# Altium footprint library BioRocketFootprints.pcblib: 40 footprints (part 2 of 3)
Each footprint in its own frame and in the unit in brackets; x right, y up, seen from the top. Pads: shape width x height; smd on the part's side, far side on the other; paste and mask are expansions set on the pad; w line width, h text height; cw(c..) or ccw(c..) is an arc to the next point about the centre after c.
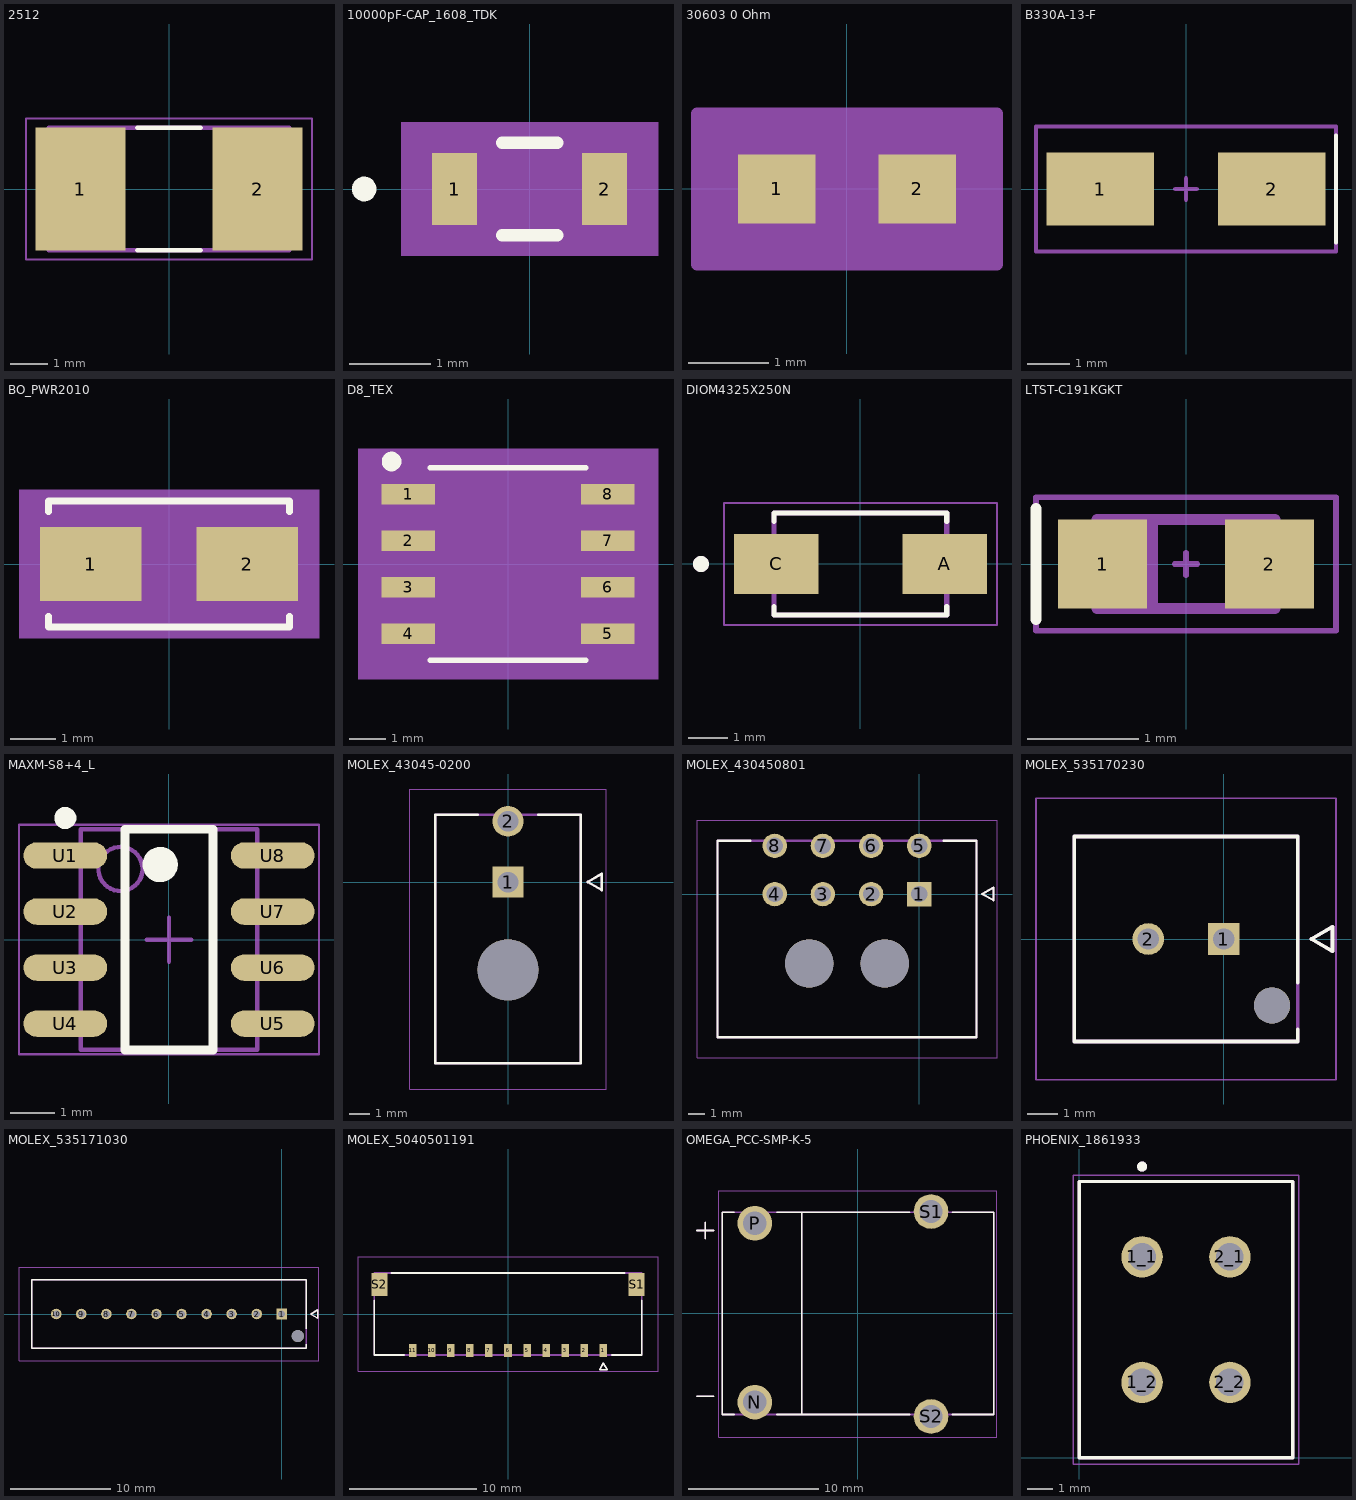
[diagram p1: the footprints below, top view; thin cyan lines are the x and y axes]

## 2512 [mm]
pads (2):
  rect 2.44x3.32 smd: 1(-2.39,0) 2(2.39,0)
Top Overlay:
  lines w0.127: -0.85,-1.65 0.85,-1.65 ; -0.85,1.65 0.85,1.65
Top 3D Body:
  lines w0.127: -3.25,-1.65 3.25,-1.65 3.25,1.65 -3.25,1.65 -3.25,-1.65
Top Courtyard (Mech15):
  lines w0.05: -3.858,-1.908 3.858,-1.908 3.858,1.908 -3.858,1.908 -3.858,-1.908
3D body "CRM2512-FX-1500ELF.STEP": height 0.8, standoff 0, extent -3.15,-1.55 3.15,1.55

## 10000pF-CAP_1608_TDK [mil]
pads (2):
  rect 22x35 smd paste+0 mask+0: 1(-36.5,0) 2(36.5,0)
Top Overlay:
  circle w6: c-80.5,0 r3
  lines w6: -13.39,-22.5 13.39,-22.5 ; -13.39,22.5 13.39,22.5
Top Designator:
  region: 62.5,-32.5 -62.5,-32.5 -62.5,32.5 62.5,32.5
Top 3D Body:
  circle w0: c-31.5,0 r3
  lines w1: -33.5,-17.5 -33.5,17.5 ; -33.5,-17.5 33.5,-17.5 ; -33.5,-17.5 -25.5,-17.5 -25.5,17.5 -33.5,17.5 ; -33.5,-17.5 -33.5,17.5 ; -33.5,17.5 33.5,17.5 ; 33.5,-17.5 33.5,17.5 ; 33.5,-17.5 33.5,17.5 ; 33.5,-17.5 25.5,-17.5 25.5,17.5 33.5,17.5
Top Courtyard (Mech15):
  region: 57.5,-27.5 -57.5,-27.5 -57.5,27.5 57.5,27.5
  lines w6: -57.5,-27.5 57.5,-27.5 57.5,27.5 -57.5,27.5 -57.5,-27.5
3D body "CAP_1608_TDK.step": height 35, standoff 0, extent -33.5,-17.48 33.5,17.48

## 30603 0 Ohm [mil]
pads (2):
  rect 38x34 smd paste+0 mask+0: 1(-34.5,0) 2(34.5,0)
Top 3D Body:
  lines w1: -31.5,-16 -31.5,16 ; -31.5,-16 -15.5,-16 -15.5,16 -31.5,16 ; -31.5,-16 31.5,-16 ; -31.5,-16 -31.5,16 ; -31.5,16 31.5,16 ; 31.5,-16 15.5,-16 15.5,16 31.5,16 ; 31.5,-16 31.5,16 ; 31.5,-16 31.5,16
Top Courtyard (Mech15):
  region: 73.5,-37 -73.5,-37 -73.5,37 73.5,37
  lines w6: -73.5,-37 -73.5,37 73.5,37 73.5,-37 -73.5,-37
3D body "RC0603N_YAG.step": height 27.99, standoff 0, extent -31.5,-15.98 31.5,15.98

## B330A-13-F [mm] "DIODE SCHOTTKY 30V 3A SMA"
pads (2):
  rect 2.5x1.7 smd mask+0.05: 1(-2,0) 2(2,0)
Top Overlay:
  lines w0.1: 3.5,-1.25 3.5,1.25
Top Component Outline:
  lines w0.1: -0.25,0 0.25,0 ; 0,-0.25 0,0.25 ; -3.5,-1.46 3.5,-1.46 3.5,1.46 -3.5,1.46 -3.5,-1.46
3D body: height 2.5, standoff 2.4, extent 2,-1.46 2.25,1.46
3D body: height 2.4, standoff 0, extent -2.75,-1.46 2.75,1.46

## BO_PWR2010 [mm]
pads (2):
  rect 2.25x1.651 smd paste+0 mask+0: 1(-1.73,0) 2(1.73,0)
Top Overlay:
  lines w0.152: -2.667,-1.158 -2.667,-1.397 2.667,-1.397 2.667,-1.158 ; -2.667,1.158 -2.667,1.397 2.667,1.397 2.667,1.158
Top Designator:
  region: 3.325,-1.651 -3.325,-1.651 -3.325,1.651 3.325,1.651
Top 3D Body:
  lines w0.025: -2.54,-1.27 -2.54,1.27 2.54,1.27 2.54,-1.27 -2.54,-1.27
Top Courtyard (Mech15):
  region: -2.794,-1.079 -2.944,-1.079 -2.944,1.079 -2.794,1.079 -2.794,1.524 2.794,1.524 2.794,1.079 2.944,1.079 2.944,-1.079 2.794,-1.079 2.794,-1.524 -2.794,-1.524
  lines w0.152: -2.944,-1.079 -2.794,-1.079 -2.794,-1.524 2.794,-1.524 2.794,-1.079 2.944,-1.079 2.944,1.079 2.794,1.079 2.794,1.524 -2.794,1.524 -2.794,1.079 -2.944,1.079 -2.944,-1.079
3D body "BO_PWR2010.step": height 3.25, standoff 0, extent -2.54,-1.27 2.54,1.27

## D8_TEX [mil]
pads (8):
  rect 57.5x22 smd paste+0 mask+0: 1(-107.25,75) 2(-107.25,25) 3(-107.25,-25) 4(-107.25,-75) 5(107.25,-75) 6(107.25,-25) 7(107.25,25) 8(107.25,75)
Top Overlay:
  circle w11: c-125,110 r5
  lines w6: -83.5,-103.5 83.5,-103.5 ; -83.5,103.5 83.5,103.5
Top Designator:
  region: 161,-123.5 -161,-123.5 -161,123.5 161,123.5
Top 3D Body:
  lines w0: -12,98.5 ccw(c0,98.5) 12,98.5
  lines w1: -122,-85 -122,-65 -78.5,-65 -78.5,-85 -122,-85 ; -122,-35 -122,-15 -78.5,-15 -78.5,-35 -122,-35 ; -122,15 -122,35 -78.5,35 -78.5,15 -122,15 ; -122,65 -122,85 -78.5,85 -78.5,65 -122,65 ; -78.5,-98.5 78.5,-98.5 78.5,98.5 -78.5,98.5 -78.5,-98.5 ; 78.5,-85 78.5,-65 122,-65 122,-85 78.5,-85 ; 78.5,-35 78.5,-15 122,-15 122,-35 78.5,-35 ; 78.5,15 78.5,35 122,35 122,15 78.5,15 ; 78.5,65 78.5,85 122,85 122,65 78.5,65
  text "*" at -76,45.5 h50
Top Courtyard (Mech15):
  region: -88.5,-96 -146,-96 -146,96 -88.5,96 -88.5,108.5 88.5,108.5 88.5,96 146,96 146,-96 88.5,-96 88.5,-108.5 -88.5,-108.5
  lines w6: -146,-96 -146,96 -88.5,96 -88.5,108.5 88.5,108.5 88.5,96 146,96 146,-96 88.5,-96 88.5,-108.5 -88.5,-108.5 -88.5,-96 -146,-96
3D body "D8_TEX.step": height 69.09, standoff 0, extent -122.01,-98.5 122.01,98.5

## DIOM4325X250N [mm]
pads (2):
  rect 2.12x1.5 smd: A(2.115,0) C(-2.115,0)
Top Overlay:
  circle w0.2: c-4,0 r0.1
  lines w0.127: -2.165,-1.07 -2.165,-1.28 2.165,-1.28 2.165,-1.07 ; -2.165,1.07 -2.165,1.28 2.165,1.28 2.165,1.07
Top 3D Body:
  circle w0.2: c-4,0 r0.1
  lines w0.127: -2.165,-1.28 2.165,-1.28 2.165,1.28 -2.165,1.28 -2.165,-1.28
Top Courtyard (Mech15):
  lines w0.05: -3.425,-1.53 3.425,-1.53 3.425,1.53 -3.425,1.53 -3.425,-1.53
3D body "SS14.STEP": height 2.5, standoff 0, extent -2.57,-1.29 2.57,1.27

## LTST-C191KGKT [mm] "Green 571nm LED Indication - Discrete 2V 0603"
height 0.65
pads (2):
  rect 0.8x0.8 smd paste-3 mask+0.05: 1(-0.75,0) 2(0.75,0)
Top Overlay:
  lines w0.1: -1.35,-0.5 -1.35,0.5
Top Component Outline:
  rectangle: -0.8,-0.4 -0.25,0.4
  lines w0.05: -0.1,0 0.1,0 ; 0,-0.1 0,0.1 ; -1.35,-0.6 -1.35,0.6 1.35,0.6 1.35,-0.6 -1.35,-0.6
  lines w0.1: -0.8,-0.4 -0.8,0.4 0.8,0.4 0.8,-0.4 -0.8,-0.4
3D body "LTST-C190KRKT--3DModel-STEP-56544.STEP": height 0.8, standoff 0, extent -0.8,-0.4 0.8,0.4

## MAXM-S8+4_L [mm] "SOIC, 8-Leads, Body 4.9x3.9mm, Pitch 1.27mm, IPC High Density"
height 1.75
pads (8):
  oval 1.9x0.6 smd: U1(-2.35,1.905) U2(-2.35,0.635) U3(-2.35,-0.635) U4(-2.35,-1.905) U5(2.35,-1.905) U6(2.35,-0.635) U7(2.35,0.635) U8(2.35,1.905)
Top Overlay:
  circle w0.25: c-2.35,2.755 r0.125
  circle w0.4: c-0.2,1.7 r0.2
  lines w0.2: -1,-2.5 -1,2.5 1,2.5 1,-2.5 -1,-2.5
Top 3D Body:
  circle w0.1: c-1.1,1.6 r0.5
  lines w0.1: -2,-2.5 -2,2.5 2,2.5 2,-2.5 -2,-2.5
Top Courtyard (Mech15):
  lines w0.05: -3.4,-2.6 -3.4,2.6 3.4,2.6 3.4,-2.6 -3.4,-2.6
  lines w0.1: -0.5,0 0.5,0 ; 0,-0.5 0,0.5
3D body: height 1.75, standoff 0.1, extent -2,-2.5 2,2.5

## MOLEX_43045-0200 [mm]
height 8.77
pads (3):
  rect 1.52x1.52 hole 1.02 mask+0.076: 1(0,0)
  round 1.52 hole 1.02 mask+0.076: 2(0,3)
  round 3 hole 3 unplated mask+0.076: ""(0,-4.32)
Top Overlay:
  lines w0.127: -1.5,3.32 -3.575,3.32 -3.575,-8.92 3.575,-8.92 3.575,3.32 1.5,3.32 ; 3.92,0.01 4.62,-0.39 4.62,0.41 3.92,0.01
Top 3D Body:
  lines w0.127: -3.575,-8.92 -3.575,3.32 3.575,3.32 3.575,-8.92 -3.575,-8.92 ; 3.92,0.01 4.62,-0.39 4.62,0.41 3.92,0.01
Top Courtyard (Mech15):
  lines w0.05: -4.845,-10.19 -4.845,4.59 4.845,4.59 4.845,-10.19 -4.845,-10.19
3D body "430450200--3DModel-STEP-56544.STEP": height 8.77, standoff -3.18, extent -3.556,-8.914 3.594,3.326

## MOLEX_430450801 [mm]
height 8.77
pads (10):
  rect 1.52x1.52 / inner round 1.52 / far side rect 1.52x1.52 hole 1.02 mask+0.076: 1(0,0)
  round 1.52 hole 1.02 mask+0.076: 2(-3,0) 3(-6,0) 4(-9,0) 5(0,3) 6(-3,3) 7(-6,3) 8(-9,3)
  round 3 hole 3 unplated mask+0.076: ""(-6.85,-4.32) ""(-2.15,-4.32)
Top Overlay:
  lines w0.127: -10.5,3.32 -12.575,3.32 -12.575,-8.92 3.575,-8.92 3.575,3.32 1.5,3.32 ; 3.92,0.01 4.62,0.41 4.62,-0.39 3.92,0.01
Top 3D Body:
  lines w0.127: -12.575,-8.92 3.575,-8.92 3.575,3.32 -12.575,3.32 -12.575,-8.92 ; 3.92,0.01 4.62,0.41 4.62,-0.39 3.92,0.01
Top Courtyard (Mech15):
  lines w0.05: -13.845,-10.19 4.845,-10.19 4.845,4.59 -13.845,4.59 -13.845,-10.19
3D body "43045-0801--3DModel-STEP-56544.STEP": height 8.77, standoff -3.18, extent -12.575,-8.92 3.575,3.32

## MOLEX_535170230 [mm]
height 17.5
pads (3):
  rect 1.05x1.05 / inner round 1.05 / far side rect 1.05x1.05 hole 0.7 mask+0.076: 1(0,0)
  round 1.05 hole 0.7 mask+0.076: 2(-2.5,0)
  round 1.2 hole 1.2 unplated mask+0.076: ""(1.6,-2.2)
Top Overlay:
  lines w0.127: 2.45,-3 2.45,-3.4 -4.95,-3.4 -4.95,3.4 2.45,3.4 2.45,-1.45 ; 2.903,0 3.603,0.4 3.603,-0.4 2.903,0
Top Solder:
  circle w0.601: c-2.5,0 r0.301
  circle w0.676: c1.6,-2.2 r0.338
  region: 0.601,-0.601 -0.601,-0.601 -0.601,0.601 0.601,0.601
Top 3D Body:
  lines w0.127: -4.95,-3.4 2.45,-3.4 2.45,3.4 -4.95,3.4 -4.95,-3.4 ; 2.903,0 3.603,0.4 3.603,-0.4 2.903,0
Top Courtyard (Mech15):
  lines w0.05: -6.22,-4.67 -6.22,4.67 3.72,4.67 3.72,-4.67 -6.22,-4.67
3D body "0535170230.stp": height 17.51, standoff -3.49, extent -4.95,-3.4 2.45,3.4

## MOLEX_535171030 [mm]
height 17.5
pads (11):
  rect 1.05x1.05 / inner round 1.05 / far side rect 1.05x1.05 hole 0.7 mask+0.076: 1(0,0)
  round 1.05 hole 0.7 mask+0.076: 2(-2.5,0) 3(-5,0) 4(-7.5,0) 5(-10,0) 6(-12.5,0) 7(-15,0) 8(-17.5,0) 9(-20,0) 10(-22.5,0)
  round 1.2 hole 1.2 unplated mask+0.076: ""(1.6,-2.2)
Top Overlay:
  lines w0.127: 2.45,-3 2.45,-3.4 -24.95,-3.4 -24.95,3.4 2.45,3.4 2.45,-1.45 ; 2.903,0 3.603,-0.4 3.603,0.4 2.903,0
Top Solder:
  circle w0.676: c1.6,-2.2 r0.338
  circle w0.601: c-22.5,0 r0.301
  circle w0.601: c-20,0 r0.301
  circle w0.601: c-17.5,0 r0.301
  circle w0.601: c-15,0 r0.301
  circle w0.601: c-12.5,0 r0.301
  circle w0.601: c-10,0 r0.301
  circle w0.601: c-7.5,0 r0.301
  circle w0.601: c-5,0 r0.301
  circle w0.601: c-2.5,0 r0.301
  region: 0.601,-0.601 -0.601,-0.601 -0.601,0.601 0.601,0.601
Top 3D Body:
  lines w0.127: -24.95,-3.4 -24.95,3.4 2.45,3.4 2.45,-3.4 -24.95,-3.4 ; 2.903,0 3.603,-0.4 3.603,0.4 2.903,0
Top Courtyard (Mech15):
  lines w0.05: -26.22,-4.67 3.72,-4.67 3.72,4.67 -26.22,4.67 -26.22,-4.67
3D body "535171030.stp": height 17.51, standoff -3.49, extent -24.95,-3.5 2.45,3.3

## MOLEX_5040501191 [mm]
height 2.15
pads (13):
  rect 0.6x1 smd mask+0.076: 1(7.5,-2.87) 2(6,-2.87) 3(4.5,-2.87) 4(3,-2.87) 5(1.5,-2.87) 6(0,-2.87) 7(-1.5,-2.87) 8(-3,-2.87) 9(-4.5,-2.87) 10(-6,-2.87) 11(-7.5,-2.87)
  rect 1.25x1.8 smd mask+0.076: S1(10.105,2.32) S2(-10.105,2.32)
Top Overlay:
  lines w0.127: -10.525,1.08 -10.525,-3.22 -8.15,-3.22 ; -9.16,3.22 9.16,3.22 ; 8.15,-3.22 10.525,-3.22 10.525,1.08 ; 7.2,-4.37 7.8,-4.37 7.5,-3.87 7.2,-4.37
Top 3D Body:
  lines w0.127: -10.525,-3.22 10.525,-3.22 10.525,3.22 -10.525,3.22 -10.525,-3.22 ; 7.2,-4.37 7.8,-4.37 7.5,-3.87 7.2,-4.37
Top Courtyard (Mech15):
  lines w0.05: -11.795,-4.49 -11.795,4.49 11.795,4.49 11.795,-4.49 -11.795,-4.49
3D body "5040501191.stp": height 2, standoff 0, extent -10.525,-3.22 10.525,3.22

## OMEGA_PCC-SMP-K-5 [mm]
pads (4):
  round 2.655 hole 1.77: N(-7.9,-6.8) P(-7.9,6.9) S1(5.6,7.8) S2(5.6,-7.9)
Top Overlay:
  lines w0.127: -12.326,-6.35 -11.056,-6.35 ; -12.326,6.35 -11.056,6.35 ; -11.691,5.715 -11.691,6.985 ; -9.497,-7.75 -10.4,-7.75 -10.4,7.75 -9.497,7.75 ; -6.202,-7.75 -4.25,-7.75 ; -6.202,7.75 -4.15,7.75 ; 3.952,-7.75 -4.3,-7.75 -4.3,7.75 3.952,7.75 ; 7.247,-7.75 10.4,-7.75 10.4,7.75 7.247,7.75
Top 3D Body:
  lines w0.127: -12.326,-6.35 -11.056,-6.35 ; -12.326,6.35 -11.056,6.35 ; -11.691,5.715 -11.691,6.985 ; -4.25,-7.75 -10.4,-7.75 -10.4,7.75 -4.15,7.75 ; -4.3,-7.75 10.4,-7.75 10.4,7.75 -4.3,7.75 -4.3,-7.75
Top Courtyard (Mech15):
  lines w0.05: -10.65,-9.477 10.65,-9.477 10.65,9.377 -10.65,9.377 -10.65,-9.477
3D body "step_temp.STEP": height 6.6, standoff -4.3, extent -10.4,-8.05 10.4,8.05

## PHOENIX_1861933 [mm]
height 10.2
pads (4):
  round 1.65 hole 1.1: 1_1(2.5,8) 1_2(2.5,3) 2_1(6,8) 2_2(6,3)
Top Overlay:
  circle w0.2: c2.5,11.6 r0.1
  lines w0.127: 0,0 0,11 8.5,11 8.5,0 0,0
Top 3D Body:
  circle w0.2: c2.5,11.6 r0.1
  lines w0.127: 0,0 0,11 8.5,11 8.5,0 0,0
Top Courtyard (Mech15):
  lines w0.05: -0.25,-0.25 -0.25,11.25 8.75,11.25 8.75,-0.25 -0.25,-0.25
3D body "1861933.stp": height 8, standoff -2.6, extent 0,0 8.5,11